# Altium schematic symbol library BUTTON.SchLib: 1 symbol
Pins are listed as number, name and electrical type; pins without a type are passive.

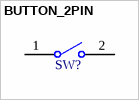
[diagram p0: symbol BUTTON_2PIN]

## BUTTON_2PIN
designator SW?
Circuit: SPST-NO; Category: Tact Switches; Mount: Surface Mount; Operating Temperature Max: 85°C; Operating Temperature Min: -40°C; Packaging: Tape and Reel; Length: 6mm; Width: 3.5mm; Height: 4.3mm; Supplier URL: https://www.mouser.vn/ProductDetail/Wurth-Elektronik/434111043826?qs=wr8lucFkNMW3koBfPj4qpQ%3D%3D; ComponentLink1Description: Datasheet; ComponentLink1URL: https://www.we-online.com/redexpert/spec/434111043826?ad; Supplier: N/A; Supplier Part Number: N/A
footprint BUTTON_B3U-1000P
footprint SWI_PUSH_PULL
pins: 1, 2